# Altium schematic symbol library Connector.SchLib: 7 symbols
Pins are listed as number, name and electrical type; pins without a type are passive.

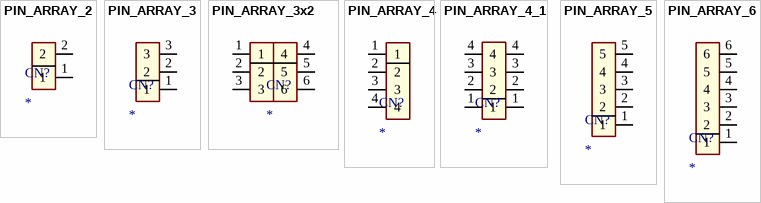
[diagram p0: symbols PIN_ARRAY_2 to PIN_ARRAY_6]

## PIN_ARRAY_2
designator CN?
footprint PIN_2.54_2_ARRAY
pins: 1, 2

## PIN_ARRAY_3
designator CN?
footprint Pin_2.54_3_Array
pins: 1, 2, 3

## PIN_ARRAY_3x2
designator CN?
footprint Pin_2.54_3x2_Array
pins: 1, 2, 3, 4, 5, 6

## PIN_ARRAY_4
designator CN?
footprint PIN_2.54_4_array
pins: 1, 2, 3, 4

## PIN_ARRAY_4_1
designator CN?
footprint PIN_2.54_4_array
pins: 1, 1, 2, 2, 3, 3, 4, 4

## PIN_ARRAY_5
designator CN?
footprint Pin_2.54_5_Array
pins: 1, 2, 3, 4, 5

## PIN_ARRAY_6
designator CN?
footprint Pin_2.54_6_Array
pins: 1, 2, 3, 4, 5, 6